# Altium footprint library 1806_X2Y.PcbLib: 1 footprints
Each footprint in its own frame and in the unit in brackets; x right, y up, seen from the top. Pads: shape width x height; smd on the part's side, far side on the other; paste and mask are expansions set on the pad; w line width, h text height; cw(c..) or ccw(c..) is an arc to the next point about the centre after c.
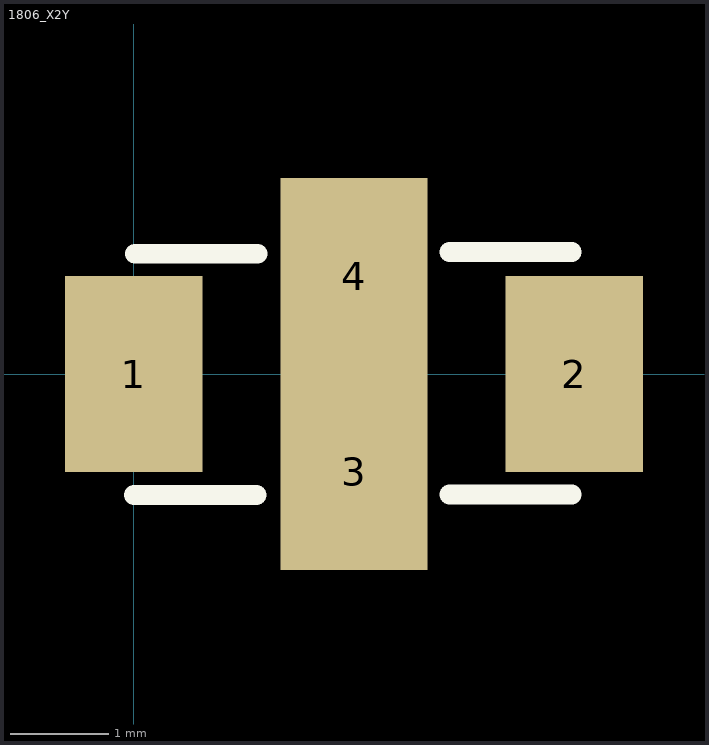
[diagram p0: the footprint, top view; thin cyan lines are the x and y axes]

## 1806_X2Y [mm]
pads (4):
  rect 1.4x2 smd: 1(0,0) 2(4.5,0)
  rect 1.5x2 smd: 3(2.25,-1) 4(2.25,1)
TopOverlay:
  lines w0.203: 0.004,-1.234 1.254,-1.234 ; 0.013,1.229 1.263,1.229 ; 3.224,-1.232 4.474,-1.232 ; 3.224,1.246 4.474,1.246
Mechanical4:
  text ".065" at 0,0 h0.03
3D body: height 1, standoff 0, extent 0,-0.8 4.5,0.8